# Altium footprint library Capacitor Tantalum Radial Oval.PcbLib: 4 footprints
Each footprint in its own frame and in the unit in brackets; x right, y up, seen from the top. Pads: shape width x height; smd on the part's side, far side on the other; paste and mask are expansions set on the pad; w line width, h text height; cw(c..) or ccw(c..) is an arc to the next point about the centre after c.
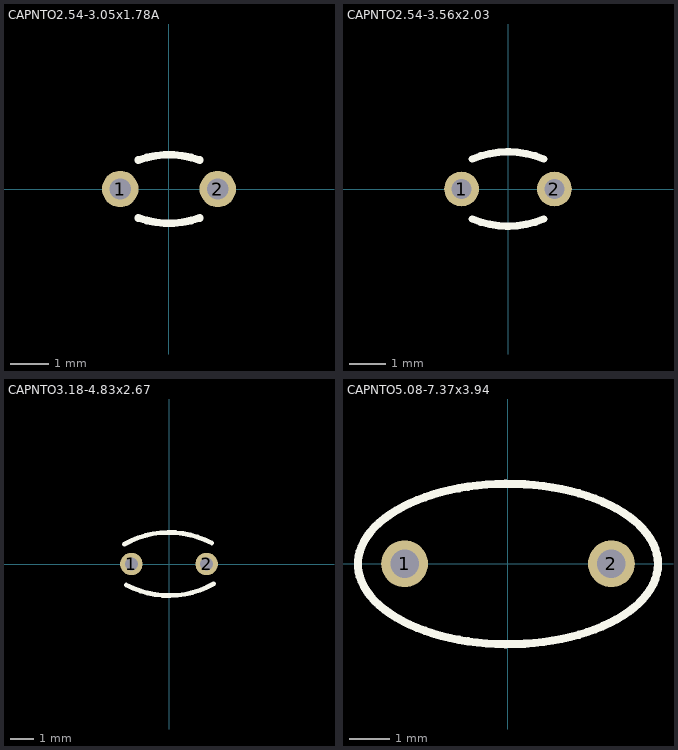
[diagram p0: the footprints below, top view; thin cyan lines are the x and y axes]

## CAPNTO2.54-3.05x1.78A [mm] "Capacitor, Radial, Tantalum, Non-Polarised; Body 3.05 x 1.78 x 3.43 mm (WxTxH max); Pin Spacing 2.54 mm (typ)"
height 3.43
pads (2):
  round 0.95 hole 0.55: 1(-1.27,0) 2(1.27,0)
Top Overlay:
  lines w0.2: -0.8,-0.753 ccw(c0,1.507) 0.8,-0.753 ; -0.8,0.753 cw(c0,-1.507) 0.8,0.753 ; -0.053,-0.89 0.041,-0.89 ; -0.041,0.89 0.053,0.89

## CAPNTO2.54-3.56x2.03 [mm] "Capacitor, Radial, Tantalum, Non-Polarised; Body 3.56 x 2.03 x 5.08 mm (WxTxH max); Pin Spacing 2.54 mm (typ)"
height 5.08
pads (2):
  round 0.95 hole 0.55: 1(-1.27,0) 2(1.27,0)
Top Overlay:
  lines w0.2: -0.979,-0.82 ccw(c0,1.543) 0.979,-0.82 ; -0.979,0.82 cw(c0,-1.543) 0.979,0.82 ; -0.053,-1.015 0.041,-1.015 ; -0.041,1.015 0.053,1.015

## CAPNTO3.18-4.83x2.67 [mm] "Capacitor, Radial, Tantalum, Non-Polarised; Body 4.83 x 2.67 x 5.97 mm (WxTxH max); Pin Spacing 3.18 mm (typ)"
height 5.97
pads (2):
  round 0.95 hole 0.55: 1(-1.59,0) 2(1.59,0)
Top Overlay:
  lines w0.2: -1.888,0.838 cw(c0,-2.5) 1.8,0.886 ; -1.8,-0.886 ccw(c0,2.5) 1.888,-0.838 ; -0.02,-1.335 0.02,-1.335 ; -0.02,1.335 0.02,1.335

## CAPNTO5.08-7.37x3.94 [mm] "Capacitor, Radial, Tantalum, Non-Polarised; Body 7.37 x 3.94 x 6.86 mm (WxTxH max); Pin Spacing 5.08 mm (typ)"
height 6.86
pads (2):
  round 1.15 hole 0.7: 1(-2.54,0) 2(2.54,0)
Top Overlay:
  lines w0.2: -3.684,-0.068 -3.669,-0.193 -3.639,-0.317 -3.595,-0.44 -3.536,-0.561 -3.463,-0.68 -3.377,-0.796 -3.276,-0.909 -3.162,-1.018 -3.036,-1.123 -2.897,-1.224 -2.747,-1.319 -2.586,-1.41 -2.414,-1.495 -2.232,-1.574 -2.042,-1.646 -1.843,-1.712 -1.637,-1.771 -1.424,-1.823 -1.206,-1.868 -0.983,-1.905 -0.755,-1.934 -0.525,-1.956 -0.293,-1.97 -0.059,-1.976 0.175,-1.974 0.408,-1.964 0.639,-1.946 0.868,-1.92 1.094,-1.887 1.314,-1.846 1.53,-1.798 1.74,-1.742 1.942,-1.68 2.137,-1.611 2.323,-1.535 2.5,-1.453 2.666,-1.365 2.822,-1.272 2.967,-1.174 3.099,-1.071 3.219,-0.964 3.327,-0.853 3.42,-0.738 3.5,-0.621 3.566,-0.501 3.618,-0.379 3.655,-0.255 3.677,-0.131 3.684,-0.006 3.677,0.119 3.655,0.244 3.618,0.367 3.566,0.489 3.5,0.609 3.42,0.726 3.327,0.841 3.219,0.952 3.099,1.059 2.967,1.162 2.822,1.26 2.666,1.354 2.5,1.441 2.323,1.523 2.137,1.599 1.942,1.668 1.74,1.731 1.53,1.786 1.314,1.834 1.094,1.875 0.868,1.909 0.639,1.934 0.408,1.952 0.175,1.962 -0.059,1.964 -0.293,1.958 -0.525,1.944 -0.755,1.922 -0.983,1.893 -1.206,1.856 -1.424,1.811 -1.637,1.759 -1.843,1.7 -2.042,1.634 -2.232,1.562 -2.414,1.483 -2.586,1.398 -2.747,1.308 -2.897,1.212 -3.036,1.111 -3.162,1.006 -3.276,0.897 -3.377,0.784 -3.463,0.668 -3.536,0.549 -3.595,0.428 -3.639,0.305 -3.669,0.181 -3.684,0.057 -3.684,-0.068